# EAGLE library part GB-CART (library Gekkio-gameboy)
Game Boy cartridge connector
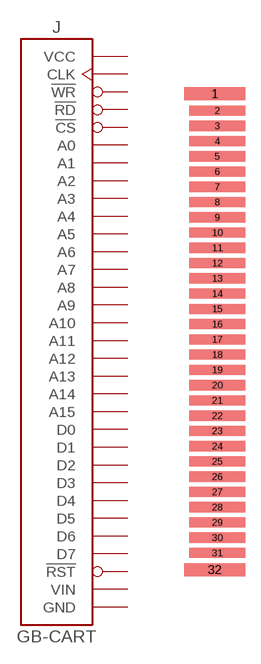
[diagram p0: symbol with the pads of GB-CART; footprint GB-CART]

Designator prefix J

## GB-CART  [GB-CART]
1  VCC  pwr
2  CLK
3  !WR
4  !RD
5  !CS
6  A0
7  A1
8  A2
9  A3
10  A4
11  A5
12  A6
13  A7
14  A8
15  A9
16  A10
17  A11
18  A12
19  A13
20  A14
21  A15
22  D0  hiz
23  D1  hiz
24  D2  hiz
25  D3  hiz
26  D4  hiz
27  D5  hiz
28  D6  hiz
29  D7  hiz
30  !RST
31  VIN  pas
32  GND  pwr

## Footprint GB-CART (pad centres in mm)
Game Boy cartridge connector Tested Source: Manual measurements, trial and error
smd 6 x 1.3: 1 0,22.65; 32 0,-24.15
smd 5.5 x 1: 2 0.25,21; 3 0.25,19.5; 4 0.25,18; 5 0.25,16.5; 6 0.25,15; 7 0.25,13.5; 8 0.25,12; 9 0.25,10.5; 10 0.25,9; 11 0.25,7.5; 12 0.25,6; 13 0.25,4.5; 14 0.25,3; 15 0.25,1.5; 16 0.25,0; 17 0.25,-1.5; 18 0.25,-3; 19 0.25,-4.5; 20 0.25,-6; 21 0.25,-7.5; 22 0.25,-9; 23 0.25,-10.5; 24 0.25,-12; 25 0.25,-13.5; 26 0.25,-15; 27 0.25,-16.5; 28 0.25,-18; 29 0.25,-19.5; 30 0.25,-21; 31 0.25,-22.5